# EAGLE library part AS-ITM-00413 (library tinycircuits)
IC LOAD CELL ADC SOP16
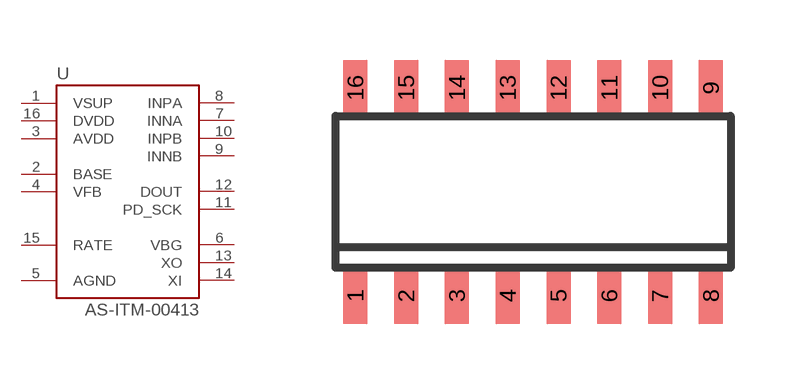
[diagram p171: symbol with the pads of SO-16; footprint SO-16]

Designator prefix U

## AS-ITM-00413 (PARTNO: AS-ITM-00413; VALUE: HX711)  [SO-16]
1  VSUP
2  BASE
3  AVDD
4  VFB
5  AGND
6  VBG
7  INNA
8  INPA
9  INNB
10  INPB
11  PD_SCK
12  DOUT
13  XO
14  XI
15  RATE
16  DVDD

## Footprint SO-16 (pad centres in mm)
smd 0.6 x 1.4: 1 -4.445,-2.6; 2 -3.175,-2.6; 3 -1.905,-2.6; 4 -0.635,-2.6; 5 0.635,-2.6; 6 1.905,-2.6; 7 3.175,-2.6; 8 4.445,-2.6; 9 4.445,2.6; 10 3.175,2.6; 11 1.905,2.6; 12 0.635,2.6; 13 -0.635,2.6; 14 -1.905,2.6; 15 -3.175,2.6; 16 -4.445,2.6